# Altium footprint library 29_to_100_Pin.PcbLib: 45 footprints (part 1 of 3)
Each footprint in its own frame and in the unit in brackets; x right, y up, seen from the top. Pads: shape width x height; smd on the part's side, far side on the other; paste and mask are expansions set on the pad; w line width, h text height; cw(c..) or ccw(c..) is an arc to the next point about the centre after c.
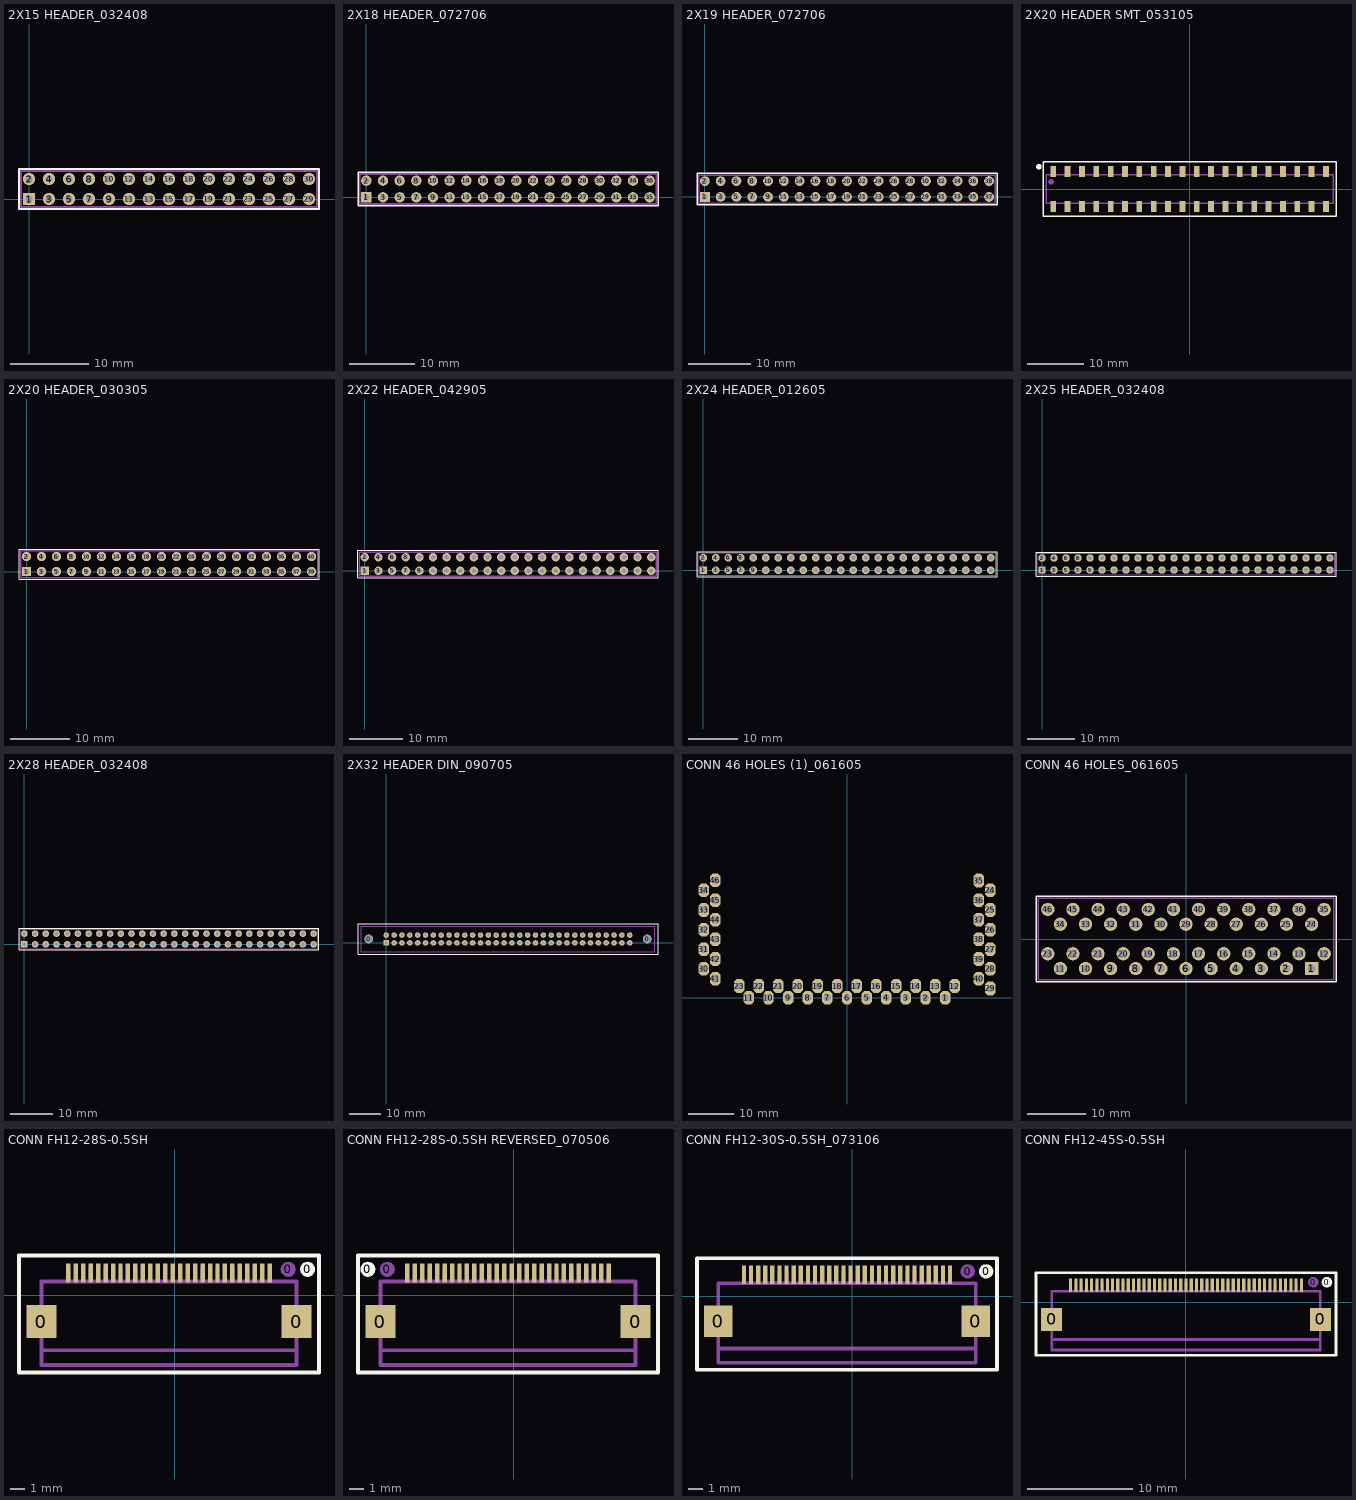
[diagram p0: the footprints below, top view; thin cyan lines are the x and y axes]

## 2X15 HEADER_032408 [mil] "TH"
height 350
pads (30):
  rect 62x62 hole 35: 1(0,0)
  round 62 hole 35: 2(0,100) 3(100,0) 4(100,100) 5(200,0) 6(200,100) 7(300,0) 8(300,100) 9(400,0) 10(400,100) 11(500,0) 12(500,100) 13(600,0) 14(600,100) 15(700,0) 16(700,100) 17(800,0) 18(800,100) 19(900,0) 20(900,100) 21(1000,0) 22(1000,100) 23(1100,0) 24(1100,100) 25(1200,0) 26(1200,100) 27(1300,0) 28(1300,100) 29(1400,0) 30(1400,100)
Top Overlay:
  lines w8: -50,-50 -50,150 1450,150 1450,-50 -50,-50
Assembly:
  lines w8: -12,-13 13,-13 13,12 -12,12 -12,-13 ; -12,87 13,87 13,112 -12,112 -12,87 ; 88,-13 88,12 113,12 113,-13 88,-13 ; 88,87 88,112 113,112 113,87 88,87 ; 188,-13 188,12 213,12 213,-13 188,-13 ; 188,87 188,112 213,112 213,87 188,87 ; 288,-13 288,12 313,12 313,-13 288,-13 ; 288,87 288,112 313,112 313,87 288,87 ; 388,-13 388,12 413,12 413,-13 388,-13 ; 388,87 388,112 413,112 413,87 388,87 ; 488,-13 488,12 513,12 513,-13 488,-13 ; 488,87 488,112 513,112 513,87 488,87 ; 588,-13 613,-13 613,12 588,12 588,-13 ; 588,87 613,87 613,112 588,112 588,87 ; 688,-13 713,-13 713,12 688,12 688,-13 ; 688,87 713,87 713,112 688,112 688,87 ; 788,-13 813,-13 813,12 788,12 788,-13 ; 788,87 813,87 813,112 788,112 788,87 ; 888,-13 913,-13 913,12 888,12 888,-13 ; 888,87 913,87 913,112 888,112 888,87 ; 988,-13 988,12 1013,12 1013,-13 988,-13 ; 988,87 988,112 1013,112 1013,87 988,87 ; 1088,-13 1113,-13 1113,12 1088,12 1088,-13 ; 1088,87 1113,87 1113,112 1088,112 1088,87 ; 1188,-13 1213,-13 1213,12 1188,12 1188,-13 ; 1188,87 1213,87 1213,112 1188,112 1188,87 ; 1288,-13 1313,-13 1313,12 1288,12 1288,-13 ; 1288,87 1313,87 1313,112 1288,112 1288,87 ; 1388,-13 1413,-13 1413,12 1388,12 1388,-13 ; 1388,87 1413,87 1413,112 1388,112 1388,87
  lines w10: -40,-40 -40,140 1440,140 1440,-40 -40,-40
Assembly Designator:
  text ".Designator" at 15,39 h40
Assembly Comment:
  text ".Comment" at 1,-110 h40

## 2X18 HEADER_072706 [mil] "TH"
height 350
pads (36):
  rect 62x62 hole 35: 1(0,0)
  round 62 hole 35: 2(0,100) 3(100,0) 4(100,100) 5(200,0) 6(200,100) 7(300,0) 8(300,100) 9(400,0) 10(400,100) 11(500,0) 12(500,100) 13(600,0) 14(600,100) 15(700,0) 16(700,100) 17(800,0) 18(800,100) 19(900,0) 20(900,100) 21(1000,0) 22(1000,100) 23(1100,0) 24(1100,100) 25(1200,0) 26(1200,100) 27(1300,0) 28(1300,100) 29(1400,0) 30(1400,100) 31(1500,0) 32(1500,100) 33(1600,0) 34(1600,100) 35(1700,0) 36(1700,100)
Top Overlay:
  lines w8: -50,-50 1750,-50 1750,150 -50,150 -50,-50
Assembly:
  lines w8: -12,-13 -12,12 13,12 13,-13 -12,-13 ; -12,87 -12,112 13,112 13,87 -12,87 ; 88,-13 113,-13 113,12 88,12 88,-13 ; 88,87 113,87 113,112 88,112 88,87 ; 188,-13 213,-13 213,12 188,12 188,-13 ; 188,87 213,87 213,112 188,112 188,87 ; 288,-13 313,-13 313,12 288,12 288,-13 ; 288,87 313,87 313,112 288,112 288,87 ; 388,-13 413,-13 413,12 388,12 388,-13 ; 388,87 413,87 413,112 388,112 388,87 ; 488,-13 513,-13 513,12 488,12 488,-13 ; 488,87 513,87 513,112 488,112 488,87 ; 588,-13 588,12 613,12 613,-13 588,-13 ; 588,87 588,112 613,112 613,87 588,87 ; 688,-13 688,12 713,12 713,-13 688,-13 ; 688,87 688,112 713,112 713,87 688,87 ; 788,-13 788,12 813,12 813,-13 788,-13 ; 788,87 788,112 813,112 813,87 788,87 ; 888,-13 888,12 913,12 913,-13 888,-13 ; 888,87 888,112 913,112 913,87 888,87 ; 988,-13 1013,-13 1013,12 988,12 988,-13 ; 988,87 1013,87 1013,112 988,112 988,87 ; 1088,-13 1088,12 1113,12 1113,-13 1088,-13 ; 1088,87 1088,112 1113,112 1113,87 1088,87 ; 1188,-13 1188,12 1213,12 1213,-13 1188,-13 ; 1188,87 1188,112 1213,112 1213,87 1188,87 ; 1288,-13 1288,12 1313,12 1313,-13 1288,-13 ; 1288,87 1288,112 1313,112 1313,87 1288,87 ; 1388,-13 1388,12 1413,12 1413,-13 1388,-13 ; 1388,87 1388,112 1413,112 1413,87 1388,87 ; 1488,-13 1513,-13 1513,12 1488,12 1488,-13 ; 1488,87 1513,87 1513,112 1488,112 1488,87 ; 1588,-13 1613,-13 1613,12 1588,12 1588,-13 ; 1588,87 1613,87 1613,112 1588,112 1588,87 ; 1688,-13 1713,-13 1713,12 1688,12 1688,-13 ; 1688,87 1713,87 1713,112 1688,112 1688,87
  lines w10: -40,-40 1740,-40 1740,140 -40,140 -40,-40
Assembly Designator:
  text ".Designator" at 15,39 h40
Assembly Comment:
  text ".Comment" at 1,-110 h40

## 2X19 HEADER_072706 [mil] "TH"
height 350
pads (38):
  rect 62x62 hole 35: 1(0,0)
  round 62 hole 35: 2(0,100) 3(100,0) 4(100,100) 5(200,0) 6(200,100) 7(300,0) 8(300,100) 9(400,0) 10(400,100) 11(500,0) 12(500,100) 13(600,0) 14(600,100) 15(700,0) 16(700,100) 17(800,0) 18(800,100) 19(900,0) 20(900,100) 21(1000,0) 22(1000,100) 23(1100,0) 24(1100,100) 25(1200,0) 26(1200,100) 27(1300,0) 28(1300,100) 29(1400,0) 30(1400,100) 31(1500,0) 32(1500,100) 33(1600,0) 34(1600,100) 35(1700,0) 36(1700,100)
  round 62.01 hole 35: 37(1800,0) 38(1800,100)
Top Overlay:
  lines w8: -50,-50 -50,150 1850,150 1850,-50 -50,-50
Assembly:
  drawing of 156 lines, arcs and shapes, not listed
Assembly Designator:
  text ".Designator" at 15,39 h40
Assembly Comment:
  text ".Comment" at 1,-110 h40

## 2X20 HEADER SMT_053105 [mil] "SMT"
height 350
pads (42):
  round 40 on Top Overlay: 0(-1050,155)
  round 40 on Mech1: 0(-965,50)
  rect 40x78 smd: 1(-950,-122.5) 2(-950,122.5) 3(-850,-122.5) 4(-850,122.5) 5(-750,-122.5) 6(-750,122.5) 7(-650,-122.5) 8(-650,122.5) 9(-550,-122.5) 10(-550,122.5) 11(-450,-122.5) 12(-450,122.5) 13(-350,-122.5) 14(-350,122.5) 15(-250,-122.5) 16(-250,122.5) 17(-150,-122.5) 18(-150,122.5) 19(-50,-122.5) 20(-50,122.5) 21(50,-122.5) 22(50,122.5) 23(150,-122.5) 24(150,122.5) 25(250,-122.5) 26(250,122.5) 27(350,-122.5) 28(350,122.5) 29(450,-122.5) 30(450,122.5) 31(550,-122.5) 32(550,122.5) 33(650,-122.5) 34(650,122.5) 35(750,-122.5) 36(750,122.5) 37(850,-122.5) 38(850,122.5) 39(950,-122.5) 40(950,122.5)
Top Overlay:
  lines w10: -1020,-190 -1020,0 -1020,190 0,190 1020,190 1020,0 1020,-190 0,-190 -1020,-190
Assembly:
  drawing of 205 lines, arcs and shapes, not listed
Assembly Designator:
  text ".Designator" at -45,20 h40
Assembly Comment:
  text ".Comment" at -175,-40 h40

## 2X20 HEADER_030305 [mil] "TH"
height 350
pads (40):
  rect 62x62 hole 35: 1(0,0)
  round 62 hole 35: 2(0,100) 3(100,0) 4(100,100) 5(200,0) 6(200,100) 7(300,0) 8(300,100) 9(400,0) 10(400,100) 11(500,0) 12(500,100) 13(600,0) 14(600,100) 15(700,0) 16(700,100) 17(800,0) 18(800,100) 19(900,0) 20(900,100) 21(1000,0) 22(1000,100) 23(1100,0) 24(1100,100) 25(1200,0) 26(1200,100) 27(1300,0) 28(1300,100) 29(1400,0) 30(1400,100) 31(1500,0) 32(1500,100) 33(1600,0) 34(1600,100) 35(1700,0) 36(1700,100) 37(1800,0) 38(1800,100) 39(1900,0) 40(1900,100)
Top Overlay:
  lines w8: -50,-50 -50,150 1950,150 1950,-50 -50,-50
Assembly:
  drawing of 164 lines, arcs and shapes, not listed
Assembly Designator:
  text ".Designator" at 15,39 h40
Assembly Comment:
  text ".Comment" at 1,-110 h40

## 2X22 HEADER_042905 [mil] "TH"
height 350
pads (44):
  rect 62x62 hole 35: 1(0,0)
  round 62 hole 35: 2(0,100) 3(100,0) 4(100,100) 5(200,0) 6(200,100) 7(300,0) 8(300,100) 9(400,0) 10(400,100) 11(500,0) 12(500,100) 13(600,0) 14(600,100) 15(700,0) 16(700,100) 17(800,0) 18(800,100) 19(900,0) 20(900,100) 21(1000,0) 22(1000,100) 23(1100,0) 24(1100,100) 25(1200,0) 26(1200,100) 27(1300,0) 28(1300,100) 29(1400,0) 30(1400,100) 31(1500,0) 32(1500,100) 33(1600,0) 34(1600,100) 35(1700,0) 36(1700,100) 37(1800,0) 38(1800,100) 39(1900,0) 40(1900,100) 41(2000,0) 42(2000,100) 43(2100,0) 44(2100,100)
Top Overlay:
  lines w8: -50,-50 -50,150 2150,150 2150,-50 -50,-50
Assembly:
  drawing of 180 lines, arcs and shapes, not listed
Assembly Designator:
  text ".Designator" at 909,35 h40
Assembly Comment:
  text ".Comment" at 779,-107 h40

## 2X24 HEADER_012605 [mil] "TH"
height 350
pads (48):
  rect 62x62 hole 35: 1(0,0)
  round 62 hole 35: 2(0,100) 3(100,0) 4(100,100) 5(200,0) 6(200,100) 7(300,0) 8(300,100) 9(400,0) 10(400,100) 11(500,0) 12(500,100) 13(600,0) 14(600,100) 15(700,0) 16(700,100) 17(800,0) 18(800,100) 19(900,0) 20(900,100) 21(1000,0) 22(1000,100) 23(1100,0) 24(1100,100) 25(1200,0) 26(1200,100) 27(1300,0) 28(1300,100) 29(1400,0) 30(1400,100) 31(1500,0) 32(1500,100) 33(1600,0) 34(1600,100) 35(1700,0) 36(1700,100) 37(1800,0) 38(1800,100) 39(1900,0) 40(1900,100) 41(2000,0) 42(2000,100) 43(2100,0) 44(2100,100) 45(2200,0) 46(2200,100) 47(2300,0) 48(2300,100)
Top Overlay:
  lines w10: -50,-50 2350,-50 2350,150 -50,150 -50,-50
Assembly:
  drawing of 220 lines, arcs and shapes, not listed
Assembly Designator:
  text ".Designator" at -20,-105 h40
Assembly Comment:
  text ".Comment" at -15,165 h40

## 2X25 HEADER_032408 [mil] "TH"
height 350
pads (50):
  rect 62x62 hole 35: 1(0,0)
  round 62 hole 35: 2(0,100) 3(100,0) 4(100,100) 5(200,0) 6(200,100) 7(300,0) 8(300,100) 9(400,0) 10(400,100) 11(500,0) 12(500,100) 13(600,0) 14(600,100) 15(700,0) 16(700,100) 17(800,0) 18(800,100) 19(900,0) 20(900,100) 21(1000,0) 22(1000,100) 23(1100,0) 24(1100,100) 25(1200,0) 26(1200,100) 27(1300,0) 28(1300,100) 29(1400,0) 30(1400,100) 31(1500,0) 32(1500,100) 33(1600,0) 34(1600,100) 35(1700,0) 36(1700,100) 37(1800,0) 38(1800,100) 39(1900,0) 40(1900,100) 41(2000,0) 42(2000,100) 43(2100,0) 44(2100,100) 45(2200,0) 46(2200,100) 47(2300,0) 48(2300,100) 49(2400,0) 50(2400,100)
Top Overlay:
  lines w10: -50,-50 -50,150 2450,150 2450,-50 -50,-50
Assembly:
  drawing of 228 lines, arcs and shapes, not listed
Assembly Designator:
  text ".Designator" at -20,-105 h40
Assembly Comment:
  text ".Comment" at -15,165 h40

## 2X28 HEADER_032408 [mil] "TH"
height 350
pads (56):
  rect 62x62 hole 35: 1(0,0)
  round 62 hole 35: 2(0,100) 3(100,0) 4(100,100) 5(200,0) 6(200,100) 7(300,0) 8(300,100) 9(400,0) 10(400,100) 11(500,0) 12(500,100) 13(600,0) 14(600,100) 15(700,0) 16(700,100) 17(800,0) 18(800,100) 19(900,0) 20(900,100) 21(1000,0) 22(1000,100) 23(1100,0) 24(1100,100) 25(1200,0) 26(1200,100) 27(1300,0) 28(1300,100) 29(1400,0) 30(1400,100) 31(1500,0) 32(1500,100) 33(1600,0) 34(1600,100) 35(1700,0) 36(1700,100) 37(1800,0) 38(1800,100) 39(1900,0) 40(1900,100) 41(2000,0) 42(2000,100) 43(2100,0) 44(2100,100) 45(2200,0) 46(2200,100) 47(2300,0) 48(2300,100) 49(2400,1) 50(2400,100) 51(2500,0) 52(2499,100) 53(2600,0) 54(2600,100) 55(2700,0) 56(2700,100)
Top Overlay:
  lines w10: -50,-50 -50,150 2750,150 2750,-50 -50,-50
Assembly:
  drawing of 252 lines, arcs and shapes, not listed
Assembly Designator:
  text ".Designator" at -20,-105 h40
Assembly Comment:
  text ".Comment" at -15,165 h40

## 2X32 HEADER DIN_090705 [mil] "TH"
height 350
pads (66):
  round 110.24 hole 110.24 unplated: 0(-221.65,50) 0(3321.65,50)
  rect 70x70 hole 40: 1(0,0)
  round 70 hole 40: 2(100,0) 3(200,0) 4(300,0) 5(400,0) 6(500,0) 7(600,0) 8(700,0) 9(800,0) 10(900,0) 11(1000,0) 12(1100,0) 13(1200,0) 14(1300,0) 15(1400,0) 16(1500,0) 17(1600,0) 18(1700,0) 19(1800,0) 20(1900,0) 21(2000,0) 22(2100,0) 23(2200,0) 24(2300,0) 25(2400,0) 26(2500,0) 27(2600,0) 28(2700,0) 29(2800,0) 30(2900,0) 31(3000,0) 32(3100,0) 33(0,100) 34(100,100) 35(200,100) 36(300,100) 37(400,100) 38(500,100) 39(600,100) 40(700,100) 41(800,100) 42(900,100) 43(1000,100) 44(1100,100) 45(1200,100) 46(1300,100) 47(1400,100) 48(1500,100) 49(1600,100) 50(1700,100) 51(1800,100) 52(1900,100) 53(2000,100) 54(2100,100) 55(2200,100) 56(2300,100) 57(2400,100) 58(2500,100) 59(2600,100) 60(2700,100) 61(2800,100) 62(2900,100) 63(3000,100) 64(3100,100)
Top Overlay:
  lines w10: -359.45,-146.85 -359.45,246.85 1550,246.85 3459.45,246.85 3459.45,-146.85 -359.45,-146.85
Assembly:
  lines w10: -320.08,-109.45 -320.08,50 -320.08,209.45 -237.4,209.45 1550,209.45 3337.4,209.45 3420.08,209.45 3420.08,50 3420.08,-109.45 3337.4,-109.45 1550,-109.45 -237.4,-109.45 -320.08,-109.45
Assembly Designator:
  text ".Designator" at 1355,-200 h40
Assembly Comment:
  text ".Comment" at 1455,45 h40

## CONN 46 HOLES (1)_061605 [mm] "TH"
pads (46):
  oct 2.3x3 hole 1.6: 1(21.59,0) 2(17.272,0) 3(12.954,0) 4(8.636,0) 5(4.318,0) 6(0,0) 7(-4.318,0) 8(-8.636,0) 9(-12.954,0) 10(-17.272,0) 11(-21.59,0) 12(23.749,2.54) 13(19.431,2.54) 14(15.113,2.54) 15(10.795,2.54) 16(6.477,2.54) 17(2.159,2.54) 18(-2.159,2.54) 19(-6.477,2.54) 20(-10.795,2.54) 21(-15.113,2.54) 22(-19.431,2.54) 23(-23.749,2.54) 24(31.496,23.597) 25(31.496,19.279) 26(31.496,14.961) 27(31.496,10.643) 28(31.496,6.325) 29(31.496,2.007) 30(-31.496,6.325) 31(-31.496,10.643) 32(-31.496,14.961) 33(-31.496,19.279) 34(-31.496,23.597) 35(28.956,25.756) 36(28.956,21.438) 37(28.956,17.12) 38(28.956,12.802) 39(28.956,8.484) 40(28.956,4.166) 41(-28.956,4.166) 42(-28.956,8.484) 43(-28.956,12.802) 44(-28.956,17.12) 45(-28.956,21.438) 46(-28.956,25.781)
Assembly Designator:
  text ".Designator" at -1.27,4.318 h1.02
Assembly Comment:
  text ".Comment" at -3.429,5.842 h1.02

## CONN 46 HOLES_061605 [mil] "TH"
pads (46):
  rect 90x90 hole 55: 1(850,-200)
  round 90 hole 55: 2(680,-200) 3(510,-200) 4(340,-200) 5(170,-200) 6(0,-200) 7(-170,-200) 8(-340,-200) 9(-510,-200) 10(-680,-200) 11(-850,-200) 12(935,-100) 13(765,-100) 14(595,-100) 15(425,-100) 16(255,-100) 17(85,-100) 18(-85,-100) 19(-255,-100) 20(-425,-100) 21(-595,-100) 22(-765,-100) 23(-935,-100) 24(850,100) 25(680,100) 26(510,100) 27(340,100) 28(170,100) 29(0,100) 30(-170,100) 31(-340,100) 32(-510,100) 33(-680,100) 34(-850,100) 35(935,200) 36(765,200) 37(595,200) 38(425,200) 39(255,200) 40(85,200) 41(-85,200) 42(-255,200) 43(-425,200) 44(-595,200) 45(-765,200) 46(-935,200)
Top Overlay:
  lines w10: -1015,-290 -1015,170 -1015,290 1015,290 1015,170 1015,-290 -1015,-290
Assembly:
  lines w10: -1000,-275 -1000,200 -1000,275 1000,275 1000,200 1000,-275 -1000,-275
Assembly Designator:
  text ".Designator" at -50,-25 h40
Assembly Comment:
  text ".Comment" at -190,-365 h40

## CONN FH12-28S-0.5SH [mm] "SM FP"
height 2
pads (32):
  rect 2x2.2 smd mask+0.025: 0(-8.919,-1.75) 0(8.181,-1.75)
  round 1.016 on Mech1 mask+0.025: 0(7.619,1.75)
  round 1.016 on Top Overlay mask+0.025: 0(8.919,1.75)
  rect 0.3x1.3 smd mask+0.025: 1(6.381,1.5) 2(5.881,1.5) 3(5.381,1.5) 4(4.881,1.5) 5(4.381,1.5) 6(3.881,1.5) 7(3.381,1.5) 8(2.881,1.5) 9(2.381,1.5) 10(1.881,1.5) 11(1.381,1.5) 12(0.881,1.5) 13(0.381,1.5) 14(-0.119,1.5) 15(-0.619,1.5) 16(-1.119,1.5) 17(-1.619,1.5) 18(-2.119,1.5) 19(-2.619,1.5) 20(-3.119,1.5) 21(-3.619,1.5) 22(-4.119,1.5) 23(-4.619,1.5) 24(-5.119,1.5) 25(-5.619,1.5) 26(-6.119,1.5) 27(-6.619,1.5) 28(-7.119,1.5)
Top Overlay:
  lines w0.254: -10.419,-5.17 -10.419,2.68 -10.319,2.68 -5.869,2.68 9.581,2.68 9.681,2.68 9.681,-5.17 9.581,-5.17 -5.869,-5.17 -10.319,-5.17 -10.419,-5.17
Assembly:
  lines w0.254: -8.919,-2.27 -9.419,-2.27 -9.419,-1.07 -8.919,-1.07 -8.919,0.93 ; -7.107,0.94 -7.107,1.74 ; -6.619,0.93 -6.619,1.73 ; -6.119,0.93 -6.119,1.73 ; -5.619,0.93 -5.619,1.73 ; -5.119,0.93 -5.119,1.73 ; -4.619,0.93 -4.619,1.73 ; -4.119,0.93 -4.119,1.73 ; -3.619,0.93 -3.619,1.73 ; -3.119,0.93 -3.119,1.73 ; -2.619,0.93 -2.619,1.73 ; -2.119,0.93 -2.119,1.73 ; -1.619,0.93 -1.619,1.73 ; -1.119,0.93 -1.119,1.73 ; -0.619,0.93 -0.619,1.73 ; -0.119,0.93 -0.119,1.73 ; 0.381,0.93 0.381,1.73 ; 0.881,0.93 0.881,1.73 ; 1.381,0.93 1.381,1.73 ; 1.881,0.93 1.881,1.73 ; 2.381,0.93 2.381,1.73 ; 2.881,0.93 2.881,1.73 ; 3.381,0.93 3.381,1.73 ; 3.881,0.93 3.881,1.73 ; 4.381,0.93 4.381,1.73 ; 4.881,0.93 4.881,1.73 ; 5.381,0.93 5.381,1.73 ; 5.881,0.93 5.881,1.73 ; 6.381,0.93 6.381,1.73 ; 8.181,-2.27 8.681,-2.27 8.681,-1.07 8.181,-1.07 ; -8.919,0.93 -8.919,-4.67 8.181,-4.67 8.181,-3.67 ; -8.919,0.93 -8.919,-3.67 8.181,-3.67 ; -8.919,0.93 8.181,0.93 8.181,-3.67
Assembly Designator:
  text ".Designator" at -2.369,-1.67 h1.02
Assembly Comment:
  text ".Comment" at -7.019,-3.27 h1.02

## CONN FH12-28S-0.5SH REVERSED_070506 [mm] "SM FP"
height 2
pads (32):
  round 1.016 on Top Overlay mask+0.025: 0(-9.756,1.75)
  rect 2x2.2 smd mask+0.025: 0(-8.919,-1.75) 0(8.181,-1.75)
  round 1.016 on Mech1 mask+0.025: 0(-8.456,1.75)
  rect 0.3x1.3 smd mask+0.025: 1(-7.119,1.5) 2(-6.619,1.5) 3(-6.119,1.5) 4(-5.619,1.5) 5(-5.119,1.5) 6(-4.619,1.5) 7(-4.119,1.5) 8(-3.619,1.5) 9(-3.119,1.5) 10(-2.619,1.5) 11(-2.119,1.5) 12(-1.619,1.5) 13(-1.119,1.5) 14(-0.619,1.5) 15(-0.119,1.5) 16(0.381,1.5) 17(0.881,1.5) 18(1.381,1.5) 19(1.881,1.5) 20(2.381,1.5) 21(2.881,1.5) 22(3.381,1.5) 23(3.881,1.5) 24(4.381,1.5) 25(4.881,1.5) 26(5.381,1.5) 27(5.881,1.5) 28(6.381,1.5)
Top Overlay:
  lines w0.254: -10.419,-5.17 -10.319,-5.17 -5.869,-5.17 9.581,-5.17 9.681,-5.17 9.681,2.68 -10.419,2.68 -10.419,-5.17
Assembly:
  lines w0.254: -8.919,-2.27 -9.419,-2.27 -9.419,-1.07 -8.919,-1.07 -8.919,0.93 ; -7.119,0.93 -7.119,1.73 ; -6.619,0.93 -6.619,1.73 ; -6.119,0.93 -6.119,1.73 ; -5.619,0.93 -5.619,1.73 ; -5.119,0.93 -5.119,1.73 ; -4.619,0.93 -4.619,1.73 ; -4.119,0.93 -4.119,1.73 ; -3.619,0.93 -3.619,1.73 ; -3.119,0.93 -3.119,1.73 ; -2.619,0.93 -2.619,1.73 ; -2.119,0.93 -2.119,1.73 ; -1.619,0.93 -1.619,1.73 ; -1.119,0.93 -1.119,1.73 ; -0.619,0.93 -0.619,1.73 ; -0.119,0.93 -0.119,1.73 ; 0.381,0.93 0.381,1.73 ; 0.881,0.93 0.881,1.73 ; 1.381,0.93 1.381,1.73 ; 1.881,0.93 1.881,1.73 ; 2.381,0.93 2.381,1.73 ; 2.881,0.93 2.881,1.73 ; 3.381,0.93 3.381,1.73 ; 3.881,0.93 3.881,1.73 ; 4.381,0.93 4.381,1.73 ; 4.881,0.93 4.881,1.73 ; 5.381,0.93 5.381,1.73 ; 5.881,0.93 5.881,1.73 ; 6.369,0.94 6.369,1.74 ; 8.181,-2.27 8.681,-2.27 8.681,-1.07 8.181,-1.07 ; -8.919,0.93 8.181,0.93 8.181,-3.67 ; -8.919,0.93 -8.919,-3.67 8.181,-3.67 ; -8.919,0.93 -8.919,-4.67 8.181,-4.67 8.181,-3.67
Assembly Designator:
  text ".Designator" at -2.369,-1.67 h1.02
Assembly Comment:
  text ".Comment" at -7.019,-3.27 h1.02

## CONN FH12-30S-0.5SH_073106 [mm] "SM FP"
height 2
pads (34):
  rect 2x2.2 smd mask+0.025: 0(-9.419,-1.75) 0(8.681,-1.75)
  round 1.016 on Mech1 mask+0.025: 0(8.119,1.75)
  round 1.016 on Top Overlay mask+0.025: 0(9.419,1.75)
  rect 0.3x1.3 smd mask+0.025: 1(6.881,1.5) 2(6.381,1.5) 3(5.881,1.5) 4(5.381,1.5) 5(4.881,1.5) 6(4.381,1.5) 7(3.881,1.5) 8(3.381,1.5) 9(2.881,1.5) 10(2.381,1.5) 11(1.881,1.5) 12(1.381,1.5) 13(0.881,1.5) 14(0.381,1.5) 15(-0.119,1.5) 16(-0.619,1.5) 17(-1.119,1.5) 18(-1.619,1.5) 19(-2.119,1.5) 20(-2.619,1.5) 21(-3.119,1.5) 22(-3.619,1.5) 23(-4.119,1.5) 24(-4.619,1.5) 25(-5.119,1.5) 26(-5.619,1.5) 27(-6.119,1.5) 28(-6.619,1.5) 29(-7.119,1.5) 30(-7.619,1.5)
Top Overlay:
  lines w0.254: -10.919,-5.17 -10.919,2.68 -10.819,2.68 -5.369,2.68 10.081,2.68 10.181,2.68 10.181,-5.17 10.081,-5.17 -5.369,-5.17 -10.819,-5.17 -10.919,-5.17
Assembly:
  lines w0.254: -9.419,-2.27 -9.919,-2.27 -9.919,-1.07 -9.419,-1.07 -9.419,0.93 ; -7.607,0.94 -7.607,1.74 ; -7.107,0.94 -7.107,1.74 ; -6.607,0.94 -6.607,1.74 ; -6.119,0.93 -6.119,1.73 ; -5.619,0.93 -5.619,1.73 ; -5.119,0.93 -5.119,1.73 ; -4.619,0.93 -4.619,1.73 ; -4.119,0.93 -4.119,1.73 ; -3.619,0.93 -3.619,1.73 ; -3.119,0.93 -3.119,1.73 ; -2.619,0.93 -2.619,1.73 ; -2.119,0.93 -2.119,1.73 ; -1.619,0.93 -1.619,1.73 ; -1.119,0.93 -1.119,1.73 ; -0.619,0.93 -0.619,1.73 ; -0.119,0.93 -0.119,1.73 ; 0.381,0.93 0.381,1.73 ; 0.881,0.93 0.881,1.73 ; 1.381,0.93 1.381,1.73 ; 1.881,0.93 1.881,1.73 ; 2.381,0.93 2.381,1.73 ; 2.881,0.93 2.881,1.73 ; 3.381,0.93 3.381,1.73 ; 3.881,0.93 3.881,1.73 ; 4.381,0.93 4.381,1.73 ; 4.881,0.93 4.881,1.73 ; 5.381,0.93 5.381,1.73 ; 5.881,0.93 5.881,1.73 ; 6.381,0.93 6.381,1.73 ; 6.881,0.93 6.881,1.73 ; 8.681,-2.27 9.181,-2.27 9.181,-1.07 8.681,-1.07 ; -9.419,0.93 8.681,0.93 8.681,-3.67 ; -9.419,0.93 -9.419,-4.67 8.681,-4.67 8.681,-3.67 ; -9.419,0.93 -9.419,-3.67 8.681,-3.67
Assembly Designator:
  text ".Designator" at -2.125,-1.65 h1.02
Assembly Comment:
  text ".Comment" at -5.375,-3.05 h1.02

## CONN FH12-45S-0.5SH [mm] "SM FP"
height 2
pads (49):
  rect 2x2.2 smd mask+0.038: 0(-12.8,-1.625) 0(12.8,-1.625)
  round 1.016 on Mech1 mask+0.038: 0(12.138,1.92)
  round 1.016 on Top Overlay mask+0.038: 0(13.438,1.92)
  rect 0.3x1.3 smd mask+0.038: 1(11,1.625) 2(10.5,1.625) 3(10,1.625) 4(9.5,1.625) 5(9,1.625) 6(8.5,1.625) 7(8,1.625) 8(7.5,1.625) 9(7,1.625) 10(6.5,1.625) 11(6,1.625) 12(5.5,1.625) 13(5,1.625) 14(4.5,1.625) 15(4,1.625) 16(3.5,1.625) 17(3,1.625) 18(2.5,1.625) 19(2,1.625) 20(1.5,1.625) 21(1,1.625) 22(0.5,1.625) 23(0,1.625) 24(-0.5,1.625) 25(-1,1.625) 26(-1.5,1.625) 27(-2,1.625) 28(-2.5,1.625) 29(-3,1.625) 30(-3.5,1.625) 31(-4,1.625) 32(-4.5,1.625) 33(-5,1.625) 34(-5.5,1.625) 35(-6,1.625) 36(-6.5,1.625) 37(-7,1.625) 38(-7.5,1.625) 39(-8,1.625) 40(-8.5,1.625) 41(-9,1.625) 42(-9.5,1.625) 43(-10,1.625) 44(-10.5,1.625) 45(-11,1.625)
Top Overlay:
  lines w0.254: -14.3,-5.045 -14.3,2.805 -14.2,2.805 1.25,2.805 14.2,2.805 14.3,2.805 14.3,-5.045 14.2,-5.045 1.25,-5.045 -14.2,-5.045 -14.3,-5.045
Assembly:
  lines w0.254: -12.8,-2.145 -13.3,-2.145 -13.3,-0.945 -12.8,-0.945 -12.8,1.055 ; -11,1.055 -11,1.855 ; -10.5,1.055 -10.5,1.855 ; -10,1.055 -10,1.855 ; -9.5,1.055 -9.5,1.855 ; -9,1.055 -9,1.855 ; -8.5,1.055 -8.5,1.855 ; -8,1.055 -8,1.855 ; -7.5,1.055 -7.5,1.855 ; -7,1.055 -7,1.855 ; -6.5,1.055 -6.5,1.855 ; -6,1.055 -6,1.855 ; -5.5,1.055 -5.5,1.855 ; -5,1.055 -5,1.855 ; -4.5,1.055 -4.5,1.855 ; -4,1.055 -4,1.855 ; -3.5,1.055 -3.5,1.855 ; -3,1.055 -3,1.855 ; -2.5,1.055 -2.5,1.855 ; -2,1.055 -2,1.855 ; -1.5,1.055 -1.5,1.855 ; -1,1.055 -1,1.855 ; -0.5,1.055 -0.5,1.855 ; 0,1.055 0,1.855 ; 0.5,1.055 0.5,1.855 ; 1,1.055 1,1.855 ; 1.25,1.055 -12.8,1.055 ; 1.5,1.055 1.5,1.855 ; 2,1.055 2,1.855 ; 2.5,1.055 2.5,1.855 ; 3,1.055 3,1.855 ; 3.5,1.055 3.5,1.855 ; 4,1.055 4,1.855 ; 4.5,1.055 4.5,1.855 ; 5,1.055 5,1.855 ; 5.5,1.055 5.5,1.855 ; 6,1.055 6,1.855 ; 6.5,1.055 6.5,1.855 ; 7,1.055 7,1.855 ; 7.5,1.055 7.5,1.855 ; 8,1.055 8,1.855 ; 8.5,1.055 8.5,1.855 ; 9,1.055 9,1.855 ; 9.5,1.055 9.5,1.855 ; 10,1.055 10,1.855 ; 10.5,1.055 10.5,1.855 ; 11,1.055 11,1.855 ; 12.8,-3.945 12.8,-3.545 ; 12.8,-2.145 13.3,-2.145 13.3,-0.945 12.8,-0.945 ; -12.8,1.055 -12.8,-4.545 12.8,-4.545 12.8,-3.545 ; -12.8,1.055 -12.8,-3.545 12.1,-3.545 12.8,-3.545 ; -12.8,1.055 12.8,1.055 12.8,-3.545
Assembly Designator:
  text ".Designator" at -0.1,-0.545 h1.02
Assembly Comment:
  text ".Comment" at -3.05,-2.395 h1.02